# EAGLE library part 93*76C (library microchip-rp)
8K Microwire Compatible Serial EEPROM Source: http://ww1.microchip.com/downloads/en/DeviceDoc/21796H.pdf
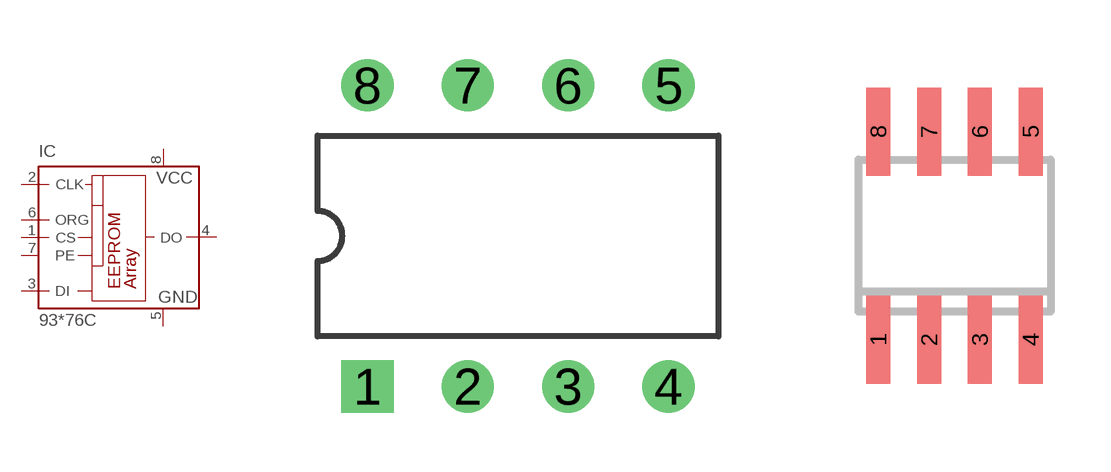
[diagram p71: symbol with the pads of DIL8; footprints DIL8, SO-08]

Designator prefix IC

## 93AA76CP (MF: MICROCHIP; MPN: 93AA76C-I/P; OC_FARNELL: 1331446; OC_NEWARK: 61H6457), 93C76CP (MF: MICROCHIP; MPN: 93C76C-I/P; OC_FARNELL: unknown; OC_NEWARK: 61H6696), 93LC76CP (MPN: 93LC76C-I/P; OC_FARNELL: 1556171; OC_NEWARK: 95M3420)  [DIL8]
1  CS  in
2  CLK  in
3  DI  in
4  DO  hiz
5  GND  pwr
6  ORG  in
7  PE  in
8  VCC  pwr

## 93AA76CSN (MPN: 93AA76C-I/SN; OC_FARNELL: 1331447; OC_NEWARK: 35M2485), 93C76CSN (MF: MICROCHIP; MPN: 93C76C-I/SN; OC_FARNELL: 1815963; OC_NEWARK: 61H6698), 93LC76CSN (MF: MICROCHIP; MPN: 93LC76C-I/SN; OC_FARNELL: unknown; OC_NEWARK: 96K4113)  [SO-08]
Pads as for DIL8

## 93AA76CST (MF: MICROCHIP; MPN: 93AA76CT-I/ST; OC_FARNELL: unknown; OC_NEWARK: 61H6467), 93C76CST (MF: MICROCHIP; MPN: 93C76CT-I/ST; OC_FARNELL: unknown; OC_NEWARK: 61H6709), 93LC76CST (MF: MICROCHIP; MPN: 93LC76C-I/ST; OC_FARNELL: unknown; OC_NEWARK: 96K4114)  [TSSOP8]
Pads as for DIL8

## 93AA76CMS (MPN: 93AA76C-I/MS; OC_FARNELL: 1331445; OC_NEWARK: 35M2483), 93C76CMS (OC_FARNELL: unknown; OC_NEWARK: unknown), 93LC76CMS (MPN: 93LC76C-I/MS; OC_FARNELL: 1331476; OC_NEWARK: 35M2509)  [MSOP8]
Pads as for DIL8

## 9376CMC (OC_FARNELL: unknown; OC_NEWARK: unknown)  [DFN-2X3]
Pads as for DIL8

## Footprint DIL8 (pad centres in mm)
Dual In Line package type P
drill 0.813 square: 1 -3.81,-3.81
drill 0.813 round: 2 -1.27,-3.81; 3 1.27,-3.81; 4 3.81,-3.81; 5 3.81,3.81; 6 1.27,3.81; 7 -1.27,3.81; 8 -3.81,3.81

## Footprint SO-08 (pad centres in mm)
Small Outline Narrow Plastic Gull Wing 150-mil body, package type SN
smd 0.6 x 2.2: 1 -1.905,-2.6; 2 -0.635,-2.6; 3 0.635,-2.6; 4 1.905,-2.6; 5 1.905,2.6; 6 0.635,2.6; 7 -0.635,2.6; 8 -1.905,2.6

## Footprint TSSOP8 (pad centres in mm)
Thin Shrink Small Outline Package package type ST
smd 0.35 x 1.2: 1 -0.975,-2.925; 2 -0.325,-2.925; 3 0.325,-2.925; 4 0.975,-2.925; 5 0.975,2.925; 6 0.325,2.925; 7 -0.325,2.925; 8 -0.975,2.925

## Footprint MSOP8 (pad centres in mm)
Micro Small Outline Package Grid 0.65mm Source: http://ww1.microchip.com/downloads/en/DeviceDoc/21796H.pdf
smd 0.45 x 1: 1 -0.975,-2.05; 2 -0.325,-2.05; 3 0.325,-2.05; 4 0.975,-2.05; 5 0.975,2.05; 6 0.325,2.05; 7 -0.325,2.05; 8 -0.975,2.05

## Footprint DFN-2X3 (pad centres in mm)
8-Lead Plastic Dual Flat No Lead Package (MC) 2x3x0.9 mm Body (DFN) - Saw Singulated Source: http://ww1.microchip.com/downloads/en/DeviceDoc/21796H.pdf
smd 0.7 x 0.3: 1 -1.325,0.75; 2 -1.325,0.25; 3 -1.325,-0.25; 4 -1.325,-0.75; 5 1.325,-0.75; 6 1.325,-0.25; 7 1.325,0.25; 8 1.325,0.75
smd 1.5 x 1.3: EXP 0,0